# Altium integrated library EEEFK1J220XP.IntLib: 1 symbol
Pins are listed as number, name and electrical type; pins without a type are passive.

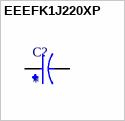
[diagram p0: symbol EEEFK1J220XP]

## EEEFK1J220XP
designator C?
22ÂµF 63V Aluminum Electrolytic Capacitors Radial, Can - SMD 2000 Hrs @ 105Â°C; MP: EEE-FK1J220XP; MF: Panasonic; Purchase-URL: https://pricing.snapeda.com/search/part/EEE-FK1J220XP/?ref=eda; Value: *; Availability: In Stock; Package: RADIAL-2 Panasonic; SnapEDA_Link: https://www.snapeda.com/parts/EEE-FK1J220XP/Panasonic+Electronic+Components/view-part/?ref=snap; Price: None; Check_prices: https://www.snapeda.com/parts/EEE-FK1J220XP/Panasonic+Electronic+Components/view-part/?ref=eda
footprint CAP_EEEFK1J220XP
pins: 1, 2